# EAGLE library part EFM8UB1-QSOP24 (library silabs_fb)
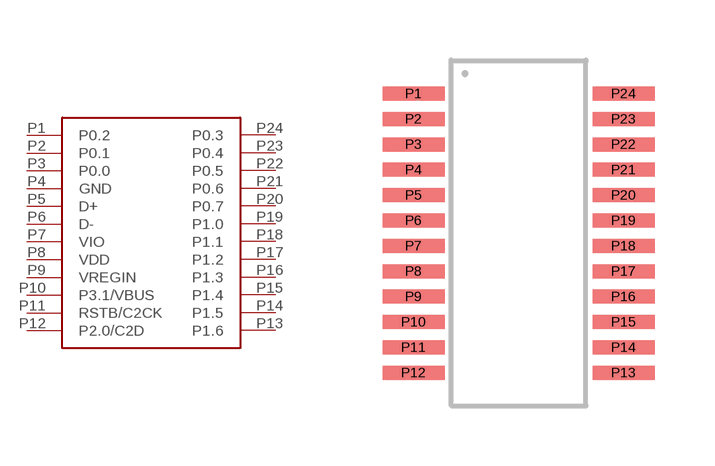
[diagram p1: symbol with the pads of QSOP24; footprint QSOP24]

Designator prefix -

## EFM8UB1-QSOP24  [QSOP24]
P1  P0.2
P2  P0.1
P3  P0.0
P4  GND
P5  D+
P6  D-
P7  VIO
P8  VDD
P9  VREGIN
P10  P3.1/VBUS
P11  RSTB/C2CK
P12  P2.0/C2D
P13  P1.6
P14  P1.5
P15  P1.4
P16  P1.3
P17  P1.2
P18  P1.1
P19  P1.0
P20  P0.7
P21  P0.6
P22  P0.5
P23  P0.4
P24  P0.3

## Footprint QSOP24 (pad centres in mm)
QSOP 24 for Allegro Hall current sensor ACS709
smd 1.55 x 0.35: P1 0,6.985; P2 0,6.35; P3 0,5.715; P4 0,5.08; P5 0,4.445; P6 0,3.81; P7 0,3.175; P8 0,2.54; P9 0,1.905; P10 0,1.27; P11 0,0.635; P12 0,0; P13 5.25,0; P14 5.25,0.635; P15 5.25,1.27; P16 5.25,1.905; P17 5.25,2.54; P18 5.25,3.175; P19 5.25,3.81; P20 5.25,4.445; P21 5.25,5.08; P22 5.25,5.715; P23 5.25,6.35; P24 5.25,6.985